# EAGLE library part SMT_100PIN (library Breakout_Boards)
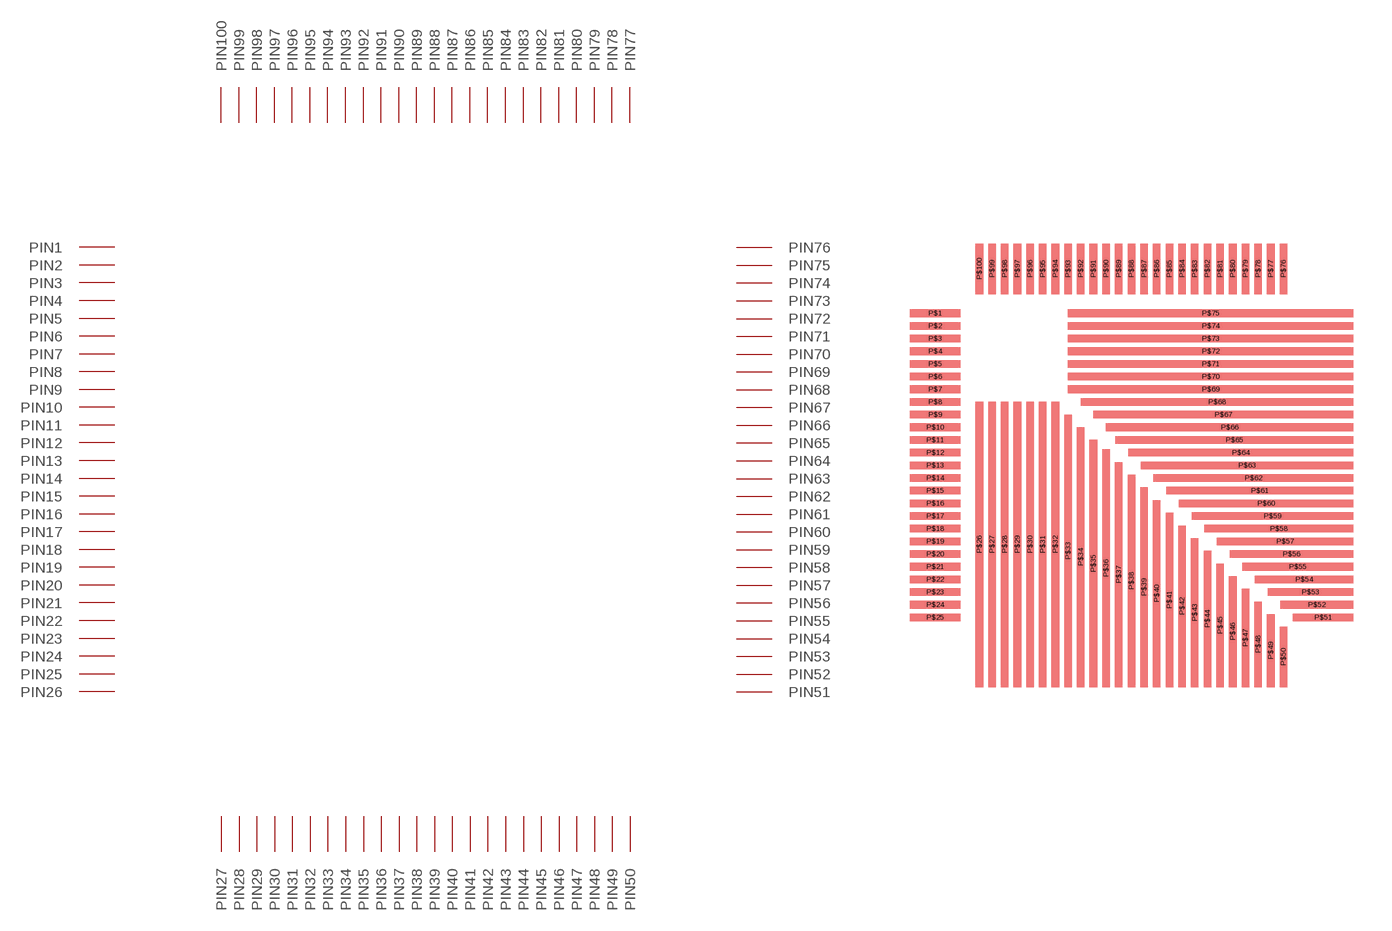
[diagram p1: symbol with the pads of TQFP_SMT_05MM; footprint TQFP_SMT_05MM]

Designator prefix -

## SMT_100PIN  [TQFP_SMT_05MM]
P$1  PIN1
P$2  PIN2
P$3  PIN3
P$4  PIN4
P$5  PIN5
P$6  PIN6
P$7  PIN7
P$8  PIN8
P$9  PIN9
P$10  PIN10
P$11  PIN11
P$12  PIN12
P$13  PIN13
P$14  PIN14
P$15  PIN15
P$16  PIN16
P$17  PIN17
P$18  PIN18
P$19  PIN19
P$20  PIN20
P$21  PIN21
P$22  PIN22
P$23  PIN23
P$24  PIN24
P$25  PIN25
P$26  PIN26
P$27  PIN27
P$28  PIN28
P$29  PIN29
P$30  PIN30
P$31  PIN31
P$32  PIN32
P$33  PIN33
P$34  PIN34
P$35  PIN35
P$36  PIN36
P$37  PIN37
P$38  PIN38
P$39  PIN39
P$40  PIN40
P$41  PIN41
P$42  PIN42
P$43  PIN43
P$44  PIN44
P$45  PIN45
P$46  PIN46
P$47  PIN47
P$48  PIN48
P$49  PIN49
P$50  PIN50
P$51  PIN51
P$52  PIN52
P$53  PIN53
P$54  PIN54
P$55  PIN55
P$56  PIN56
P$57  PIN57
P$58  PIN58
P$59  PIN59
P$60  PIN60
P$61  PIN61
P$62  PIN62
P$63  PIN63
P$64  PIN64
P$65  PIN65
P$66  PIN66
P$67  PIN67
P$68  PIN68
P$69  PIN69
P$70  PIN70
P$71  PIN71
P$72  PIN72
P$73  PIN73
P$74  PIN74
P$75  PIN75
P$76  PIN76
P$77  PIN77
P$78  PIN78
P$79  PIN79
P$80  PIN80
P$81  PIN81
P$82  PIN82
P$83  PIN83
P$84  PIN84
P$85  PIN85
P$86  PIN86
P$87  PIN87
P$88  PIN88
P$89  PIN89
P$90  PIN90
P$91  PIN91
P$92  PIN92
P$93  PIN93
P$94  PIN94
P$95  PIN95
P$96  PIN96
P$97  PIN97
P$98  PIN98
P$99  PIN99
P$100  PIN100

## Footprint TQFP_SMT_05MM (pad centres in mm)
smd 2 x 0.3: P$1 -7.58,6; P$2 -7.58,5.5; P$3 -7.58,5; P$4 -7.58,4.5; P$5 -7.58,4; P$6 -7.58,3.5; P$7 -7.58,3; P$8 -7.58,2.5; P$9 -7.58,2; P$10 -7.58,1.5; P$11 -7.58,1; P$12 -7.58,0.5; P$13 -7.58,0; P$14 -7.58,-0.5; P$15 -7.58,-1; P$16 -7.58,-1.5; P$17 -7.58,-2; P$18 -7.58,-2.5; P$19 -7.58,-3; P$20 -7.58,-3.5; P$21 -7.58,-4; P$22 -7.58,-4.5; P$23 -7.58,-5; P$24 -7.58,-5.5; P$25 -7.58,-6
smd 0.3 x 11.25: P$26 -5.83,-3.125; P$27 -5.33,-3.125; P$28 -4.83,-3.125; P$29 -4.33,-3.125; P$30 -3.83,-3.125; P$31 -3.33,-3.125; P$32 -2.83,-3.125
smd 0.3 x 10.75: P$33 -2.33,-3.375
smd 0.3 x 10.25: P$34 -1.83,-3.625
smd 0.3 x 9.75: P$35 -1.33,-3.875
smd 0.3 x 9.375: P$36 -0.83,-4.062
smd 0.3 x 8.875: P$37 -0.33,-4.312
smd 0.3 x 8.375: P$38 0.17,-4.562
smd 0.3 x 7.875: P$39 0.67,-4.812
smd 0.3 x 7.375: P$40 1.17,-5.062
smd 0.3 x 6.875: P$41 1.67,-5.312
smd 0.3 x 6.375: P$42 2.17,-5.562
smd 0.3 x 5.875: P$43 2.67,-5.812
smd 0.3 x 5.375: P$44 3.17,-6.062
smd 0.3 x 4.875: P$45 3.67,-6.312
smd 0.3 x 4.375: P$46 4.17,-6.562
smd 0.3 x 3.875: P$47 4.67,-6.812
smd 0.3 x 3.375: P$48 5.17,-7.062
smd 0.3 x 2.875: P$49 5.67,-7.312
smd 0.3 x 2.375: P$50 6.17,-7.562
smd 2.375 x 0.3: P$51 7.732,-6
smd 2.875 x 0.3: P$52 7.482,-5.5
smd 3.375 x 0.3: P$53 7.232,-5
smd 3.875 x 0.3: P$54 6.982,-4.5
smd 4.375 x 0.3: P$55 6.732,-4
smd 4.875 x 0.3: P$56 6.482,-3.5
smd 5.375 x 0.3: P$57 6.232,-3
smd 5.875 x 0.3: P$58 5.982,-2.5
smd 6.375 x 0.3: P$59 5.732,-2
smd 6.875 x 0.3: P$60 5.482,-1.5
smd 7.375 x 0.3: P$61 5.232,-1
smd 7.875 x 0.3: P$62 4.982,-0.5
smd 8.375 x 0.3: P$63 4.732,0
smd 8.875 x 0.3: P$64 4.482,0.5
smd 9.375 x 0.3: P$65 4.232,1
smd 9.78 x 0.3: P$66 4.045,1.5
smd 10.25 x 0.3: P$67 3.795,2
smd 10.75 x 0.3: P$68 3.545,2.5
smd 11.25 x 0.3: P$69 3.295,3; P$70 3.295,3.5; P$71 3.295,4; P$72 3.295,4.5; P$73 3.295,5; P$74 3.295,5.5; P$75 3.295,6
smd 0.3 x 2: P$76 6.17,7.75; P$77 5.67,7.75; P$78 5.17,7.75; P$79 4.67,7.75; P$80 4.17,7.75; P$81 3.67,7.75; P$82 3.17,7.75; P$83 2.67,7.75; P$84 2.17,7.75; P$85 1.67,7.75; P$86 1.17,7.75; P$87 0.67,7.75; P$88 0.17,7.75; P$89 -0.33,7.75; P$90 -0.83,7.75; P$91 -1.33,7.75; P$92 -1.83,7.75; P$93 -2.33,7.75; P$94 -2.83,7.75; P$95 -3.33,7.75; P$96 -3.83,7.75; P$97 -4.33,7.75; P$98 -4.83,7.75; P$99 -5.33,7.75; P$100 -5.83,7.75